# Altium footprint library TEENSY_LONG_EXT.PcbLib: 1 footprints
Each footprint in its own frame and in the unit in brackets; x right, y up, seen from the top. Pads: shape width x height; smd on the part's side, far side on the other; paste and mask are expansions set on the pad; w line width, h text height; cw(c..) or ccw(c..) is an arc to the next point about the centre after c.
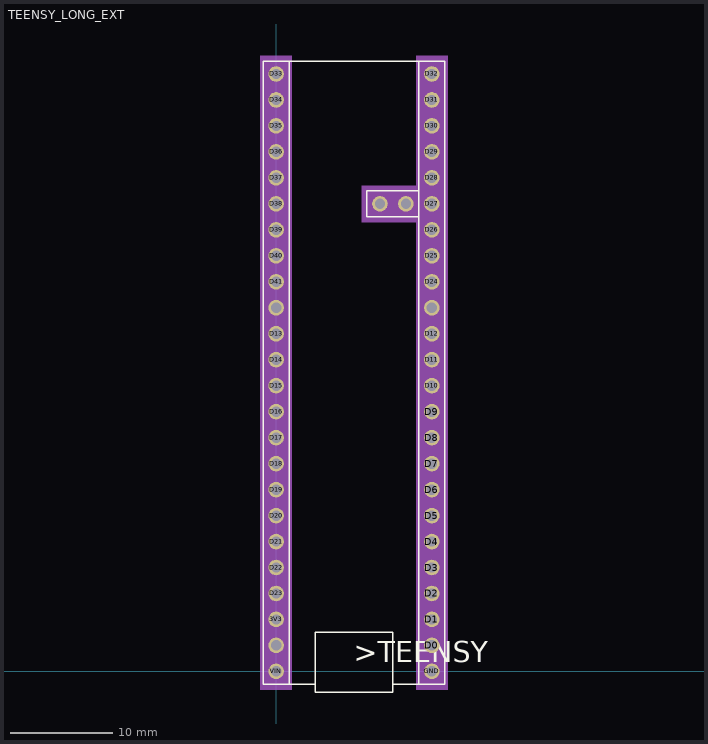
[diagram p0: the footprint, top view; thin cyan lines are the x and y axes]

## TEENSY_LONG_EXT [mil]
pads (50):
  round 60 hole 40: 3V3(0,200) 3V3@2(600,1400) 3V3@3(400,1800) AGND/GND(0,100) D0(600,100) D1(600,200) D2(600,300) D3(600,400) D4(600,500) D5(600,600) D6(600,700) D7(600,800) D8(600,900) D9(600,1000) D10(600,1100) D11(600,1200) D12(600,1300) D13(0,1300) D14(0,1200) D15(0,1100) D16(0,1000) D17(0,900) D18(0,800) D19(0,700) D20(0,600) D21(0,500) D22(0,400) D23(0,300) D24(600,1500) D25(600,1600) D26(600,1700) D27(600,1800) D28(600,1900) D29(600,2000) D30(600,2100) D31(600,2200) D32(600,2300) D33(0,2300) D34(0,2200) D35(0,2100) D36(0,2000) D37(0,1900) D38(0,1800) D39(0,1700) D40(0,1600) D41(0,1500) GND(600,0) GND@2(0,1400) VBAT(500,1800) VIN(0,0)
Top Overlay:
  lines w5: 50,-50 50,2350 ; 50,-50 -50,-50 -50,2350 50,2350 ; 50,-50 150,-50 ; 50,2350 550,2350 ; 150,-50 150,150 450,150 450,-50 ; 150,-50 150,-80 450,-80 450,-50 ; 450,-50 550,-50 ; 550,-50 550,1750 ; 550,-50 650,-50 650,2350 550,2350 ; 550,1750 350,1750 350,1850 550,1850 ; 550,1750 550,1850 ; 550,1850 550,2350
  text ">TEENSY" at 300,35 h80
Mechanical 15:
  region: 570,1730 330,1730 330,1870 570,1870
  region: 660,-70 540,-70 540,2370 660,2370
  region: 60,-70 -60,-70 -60,2370 60,2370
Mechanical 16:
  region: 570,1730 330,1730 330,1870 570,1870
  region: 60,-70 -60,-70 -60,2370 60,2370
  region: 660,-70 540,-70 540,2370 660,2370
3D body "step_temp.STEP": height 281.64, standoff -263.61, extent -55,-77.57 645,2350